# EAGLE library part RTL8309N_QFN64 (library Realtek_Active14)
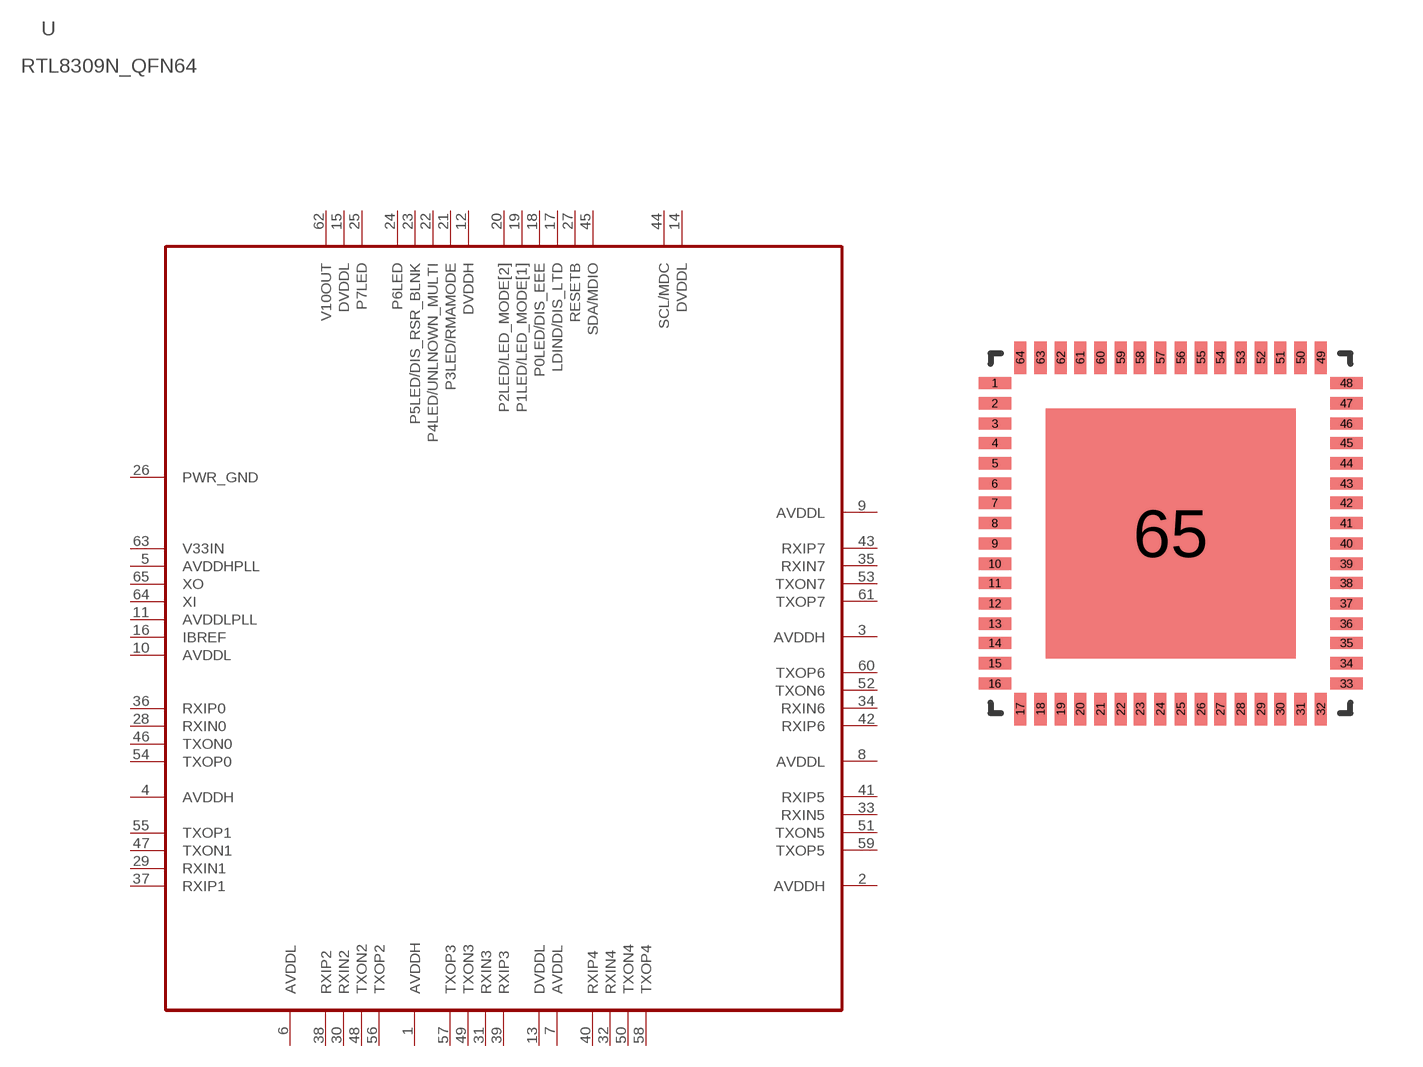
[diagram p0: symbol with the pads of RTL80309N-QFN65N; footprint RTL80309N-QFN65N]

Designator prefix -

## RTL8309N_QFN64  [RTL80309N-QFN65N]
1  AVDDH  in
2  AVDDH
3  AVDDH
4  AVDDH
5  AVDDHPLL
6  AVDDL  pwr
7  AVDDL
8  AVDDL
9  AVDDL  pas
10  AVDDL
11  AVDDLPLL
12  DVDDH
13  DVDDL
14  DVDDL  pas
15  DVDDL
16  IBREF
17  LDIND/DIS_LTD
18  P0LED/DIS_EEE
19  P1LED/LED_MODE[1]
20  P2LED/LED_MODE[2]
21  P3LED/RMAMODE
22  P4LED/UNLNOWN_MULTI
23  P5LED/DIS_RSR_BLNK
24  P6LED
25  P7LED
26  PWR_GND
27  RESETB
28  RXIN0
29  RXIN1
30  RXIN2  pwr
31  RXIN3  in
32  RXIN4
33  RXIN5
34  RXIN6
35  RXIN7  pas
36  RXIP0
37  RXIP1
38  RXIP2  pwr
39  RXIP3
40  RXIP4
41  RXIP5
42  RXIP6
43  RXIP7  pas
44  SCL/MDC  pas
45  SDA/MDIO
46  TXON0
47  TXON1
48  TXON2  pwr
49  TXON3  pwr
50  TXON4
51  TXON5
52  TXON6
53  TXON7
54  TXOP0
55  TXOP1
56  TXOP2  pwr
57  TXOP3  pwr
58  TXOP4
59  TXOP5
60  TXOP6
61  TXOP7
62  V10OUT
63  V33IN
64  XI
65  XO

## Footprint RTL80309N-QFN65N (pad centres in mm)
smd 0.813 x 0.305: 1 -4.394,3.759; 2 -4.394,3.251; 3 -4.394,2.743; 4 -4.394,2.261; 5 -4.394,1.753; 6 -4.394,1.245; 7 -4.394,0.762; 8 -4.394,0.254; 9 -4.394,-0.254; 10 -4.394,-0.762; 11 -4.394,-1.245; 12 -4.394,-1.753; 13 -4.394,-2.261; 14 -4.394,-2.743; 15 -4.394,-3.251; 16 -4.394,-3.759; 33 4.394,-3.759; 34 4.394,-3.251; 35 4.394,-2.743; 36 4.394,-2.261; 37 4.394,-1.753; 38 4.394,-1.245; 39 4.394,-0.762; 40 4.394,-0.254; 41 4.394,0.254; 42 4.394,0.762; 43 4.394,1.245; 44 4.394,1.753; 45 4.394,2.261; 46 4.394,2.743; 47 4.394,3.251; 48 4.394,3.759
smd 0.305 x 0.813: 17 -3.759,-4.394; 18 -3.251,-4.394; 19 -2.743,-4.394; 20 -2.261,-4.394; 21 -1.753,-4.394; 22 -1.245,-4.394; 23 -0.762,-4.394; 24 -0.254,-4.394; 25 0.254,-4.394; 26 0.762,-4.394; 27 1.245,-4.394; 28 1.753,-4.394; 29 2.261,-4.394; 30 2.743,-4.394; 31 3.251,-4.394; 32 3.759,-4.394; 49 3.759,4.394; 50 3.251,4.394; 51 2.743,4.394; 52 2.261,4.394; 53 1.753,4.394; 54 1.245,4.394; 55 0.762,4.394; 56 0.254,4.394; 57 -0.254,4.394; 58 -0.762,4.394; 59 -1.245,4.394; 60 -1.753,4.394; 61 -2.261,4.394; 62 -2.743,4.394; 63 -3.251,4.394; 64 -3.759,4.394
smd 6.25 x 6.25: 65 0,0